# Altium schematic symbol library 35133.SchLib: 9 symbols
Pins are listed as number, name and electrical type; pins without a type are passive.

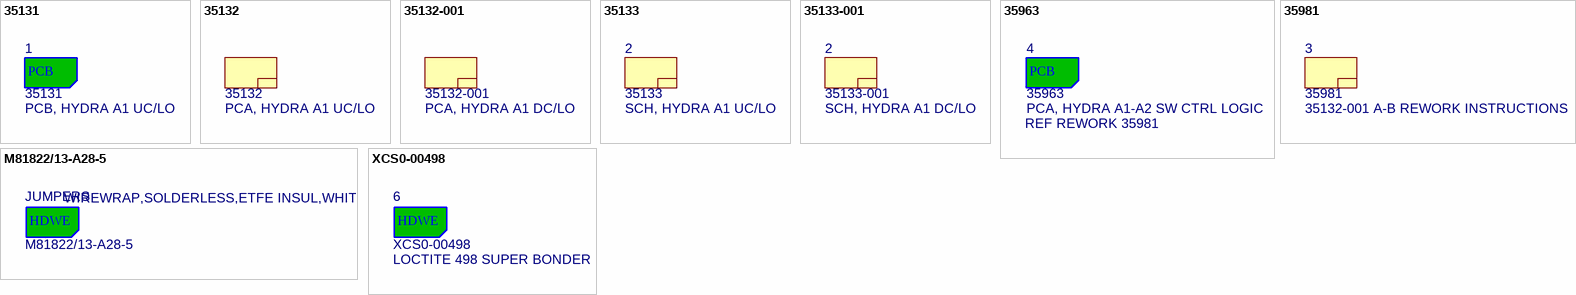
[diagram p0: symbols 35131 to XCS0-00498]

## 35131
designator 1  value PCB, HYDRA A1 UC/LO  (hidden comment: 35131)  (mechanical)
PCB, HYDRA A1 UC/LO; NoLoad: .; MFGR: STREAMLINE CIRCUITS; Approved: MH; level: 1; M_PN: 35131; ModifyDate: 2016-03-18; line_number: 1; item_number: 35131
text: PCB

## 35132
designator ?  value PCA, HYDRA A1 UC/LO  item_number: 35132  (mechanical)
PCA, HYDRA A1 UC/LO; NoLoad: .; level: 0; line_number: 0

## 35132-001
designator ?  value PCA, HYDRA A1 DC/LO  item_number: 35132-001  (mechanical)
PCA, HYDRA A1 DC/LO; NoLoad: .; level: 0; line_number: 0

## 35133
designator 2  value SCH, HYDRA A1 UC/LO  (hidden comment: 35133)  (mechanical)
SCH, HYDRA A1 UC/LO; NoLoad: .; level: 1; line_number: 2; item_number: 35133

## 35133-001
designator 2  value SCH, HYDRA A1 DC/LO  (hidden comment: 35133-001)  (mechanical)
SCH, HYDRA A1 DC/LO; NoLoad: .; level: 1; line_number: 2; item_number: 35133-001

## 35963
designator 4  value PCA, HYDRA A1-A2 SW CTRL LOGIC  bom_notes: REF REWORK 35981  (hidden comment: 35963)
PCA, HYDRA A1-A2 SW CTRL LOGIC; NoLoad: .; MFGR: Giga-tronics, Inc.; Approved: MH; level: 1; line_number: 4; M_PN: 35963; ModifyDate: 2016-03-18; item_number: 35963
footprint 35963 (PCA, HYDRA A1-A2 SW CTRL LOGIC)
text: PCB

## 35981
designator 3  value 35132-001 A-B REWORK INSTRUCTIONS  (hidden comment: 35981)  (mechanical)
35132-001 A-B REWORK INSTRUCTIONS; NoLoad: .; level: 1; line_number: 3; item_number: 35981

## M81822/13-A28-5
designator JUMPERS, comment WIREWRAP,SOLDERLESS,ETFE INSUL,WHITE  item_number: M81822/13-A28-5  (mechanical)
NoLoad: .; MFGR: ANY; Approved: MH; level: 1; line_number: 5; M_PN: M81822/13-A28-5; ModifyDate: 2016-02-23
text: HDWE

## XCS0-00498
designator 6, comment item_number: XCS0-00498  (hidden comment: LOCTITE 498 SUPER BONDER)  (mechanical)
NoLoad: .; M_PN: 49850; Approved: MH; level: 1; line_number: 6; MFGR: LOCTITE; ModifyDate: 2016-03-23; Value: LOCTITE 498 SUPER BONDER
text: HDWE